# EAGLE library part ATSAMS70NXXA-AN (library SparkFun-IC-Microcontroller)
Atmel SAMS70N20A-AN ARM-Based Microcontroller 32-bit ARM Cortex-M7 MCUs with FPU, Audio and Graphics Interfaces, High-Speed USB, Ethernet, and Advanced Analog Datasheet <https://cdn.sparkfun.com/assets/4/6/4/b/7/SAM_E70_S70_V70_V71_Family_Data_Sheet_DS60001527D-1660339.pdf> SparkFun Products SparkFun Tsunami Super WAV Trigger <https://www.sparkfun.com/products/13810> (WIG-13810)
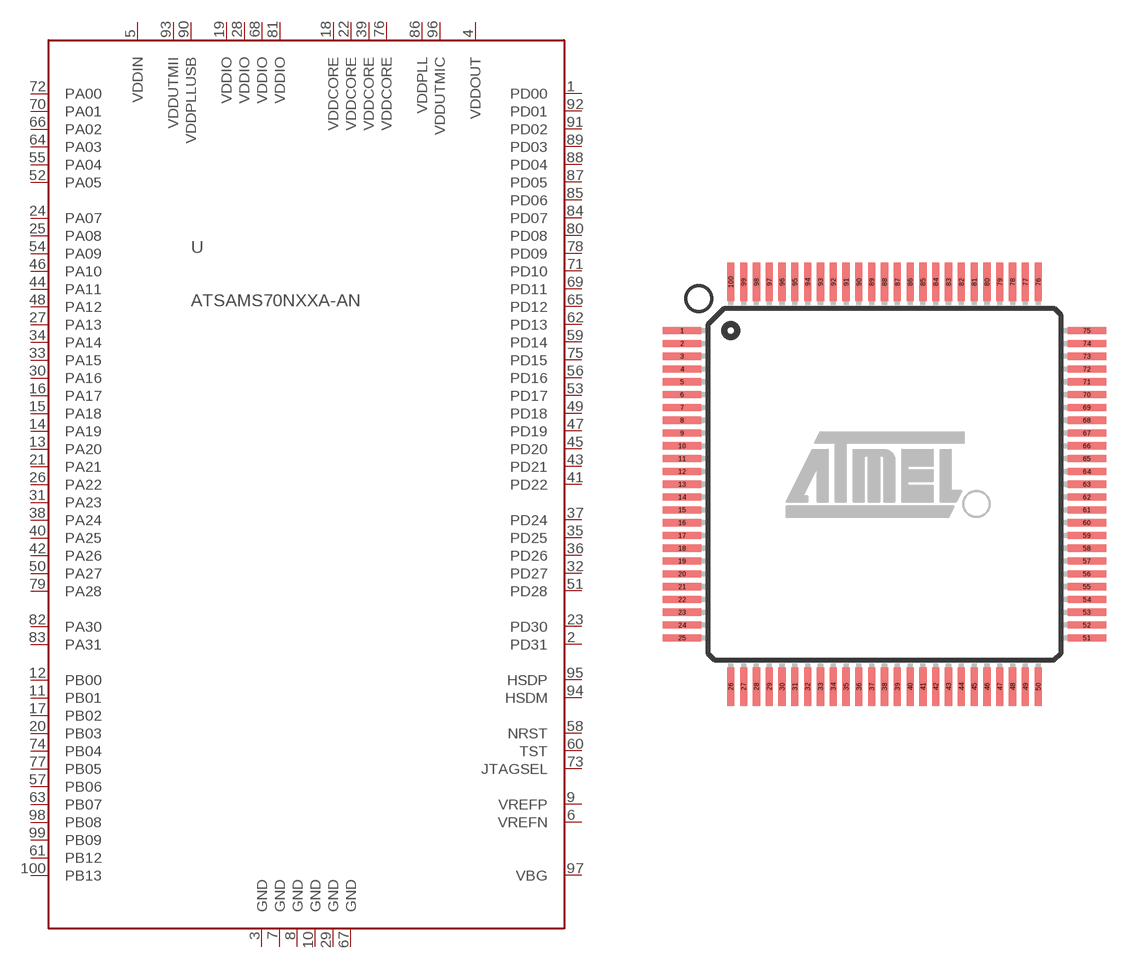
[diagram p41: symbol with the pads of LQFP100; footprint LQFP100]

Designator prefix U

## ATSAMS70NXXA-AN (PROD_ID: IC-13238)  [LQFP100]
1  PD00
2  PD31
3  GND
4  VDDOUT
5  VDDIN
6  VREFN
7  GND
8  GND
9  VREFP
10  GND
11  PB01
12  PB00
13  PA20
14  PA19
15  PA18
16  PA17
17  PB02
18  VDDCORE
19  VDDIO
20  PB03
21  PA21
22  VDDCORE
23  PD30
24  PA07
25  PA08
26  PA22
27  PA13
28  VDDIO
29  GND
30  PA16
31  PA23
32  PD27
33  PA15
34  PA14
35  PD25
36  PD26
37  PD24
38  PA24
39  VDDCORE
40  PA25
41  PD22
42  PA26
43  PD21
44  PA11
45  PD20
46  PA10
47  PD19
48  PA12
49  PD18
50  PA27
51  PD28
52  PA05
53  PD17
54  PA09
55  PA04
56  PD16
57  PB06
58  NRST
59  PD14
60  TST
61  PB12
62  PD13
63  PB07
64  PA03
65  PD12
66  PA02
67  GND
68  VDDIO
69  PD11
70  PA01
71  PD10
72  PA00
73  JTAGSEL
74  PB04
75  PD15
76  VDDCORE
77  PB05
78  PD09
79  PA28
80  PD08
81  VDDIO
82  PA30
83  PA31
84  PD07
85  PD06
86  VDDPLL
87  PD05
88  PD04
89  PD03
90  VDDPLLUSB
91  PD02
92  PD01
93  VDDUTMII
94  HSDM
95  HSDP
96  VDDUTMIC
97  VBG
98  PB08
99  PB09
100  PB13

## Footprint LQFP100 (pad centres in mm)
LQFP 100 Source: 6120s.pdf
smd 1.5 x 0.28: 1 -7.9,6; 2 -7.9,5.5; 3 -7.9,5; 4 -7.9,4.5; 5 -7.9,4; 6 -7.9,3.5; 7 -7.9,3; 8 -7.9,2.5; 9 -7.9,2; 10 -7.9,1.5; 11 -7.9,1; 12 -7.9,0.5; 13 -7.9,0; 14 -7.9,-0.5; 15 -7.9,-1; 16 -7.9,-1.5; 17 -7.9,-2; 18 -7.9,-2.5; 19 -7.9,-3; 20 -7.9,-3.5; 21 -7.9,-4; 22 -7.9,-4.5; 23 -7.9,-5; 24 -7.9,-5.5; 25 -7.9,-6; 51 7.9,-6; 52 7.9,-5.5; 53 7.9,-5; 54 7.9,-4.5; 55 7.9,-4; 56 7.9,-3.5; 57 7.9,-3; 58 7.9,-2.5; 59 7.9,-2; 60 7.9,-1.5; 61 7.9,-1; 62 7.9,-0.5; 63 7.9,0; 64 7.9,0.5; 65 7.9,1; 66 7.9,1.5; 67 7.9,2; 68 7.9,2.5; 69 7.9,3; 70 7.9,3.5; 71 7.9,4; 72 7.9,4.5; 73 7.9,5; 74 7.9,5.5; 75 7.9,6
smd 0.28 x 1.5: 26 -6,-7.9; 27 -5.5,-7.9; 28 -5,-7.9; 29 -4.5,-7.9; 30 -4,-7.9; 31 -3.5,-7.9; 32 -3,-7.9; 33 -2.5,-7.9; 34 -2,-7.9; 35 -1.5,-7.9; 36 -1,-7.9; 37 -0.5,-7.9; 38 0,-7.9; 39 0.5,-7.9; 40 1,-7.9; 41 1.5,-7.9; 42 2,-7.9; 43 2.5,-7.9; 44 3,-7.9; 45 3.5,-7.9; 46 4,-7.9; 47 4.5,-7.9; 48 5,-7.9; 49 5.5,-7.9; 50 6,-7.9; 76 6,7.9; 77 5.5,7.9; 78 5,7.9; 79 4.5,7.9; 80 4,7.9; 81 3.5,7.9; 82 3,7.9; 83 2.5,7.9; 84 2,7.9; 85 1.5,7.9; 86 1,7.9; 87 0.5,7.9; 88 0,7.9; 89 -0.5,7.9; 90 -1,7.9; 91 -1.5,7.9; 92 -2,7.9; 93 -2.5,7.9; 94 -3,7.9; 95 -3.5,7.9; 96 -4,7.9; 97 -4.5,7.9; 98 -5,7.9; 99 -5.5,7.9; 100 -6,7.9